# EAGLE library part 74HC03 (library new-pca9306)
Quad 2-input open-drain NAND 2-5V operating voltage Some part numbers may include a clamping diode from OD output to VCC; check datasheet for specific part. We use an NXP part which does NOT have a clamping diode.
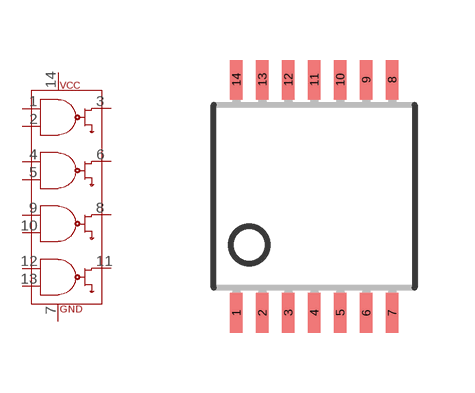
[diagram p110: symbol with the pads of TSSOP14; footprint TSSOP14]

Designator prefix -

## 74HC03  [TSSOP14]
1  A1
2  B1
3  Y1
4  A2
5  B2
6  Y2
7  VSS
8  Y3
9  A3
10  B3
11  Y4
12  A4
13  B4
14  VCC

## Footprint TSSOP14 (pad centres in mm)
Thin Shrink Small Outline Plastic 14
smd 0.305 x 0.991: 1 -1.95,-2.918; 2 -1.3,-2.918; 3 -0.65,-2.918; 4 0,-2.918; 5 0.65,-2.918; 6 1.3,-2.918; 7 1.95,-2.918; 8 1.95,2.918; 9 1.3,2.918; 10 0.65,2.918; 11 0,2.918; 12 -0.65,2.918; 13 -1.3,2.918; 14 -1.95,2.918